# Altium schematic symbol library S100 SCHLIB.SchLib: 36 symbols
Pins are listed as number, name and electrical type; pins without a type are passive.

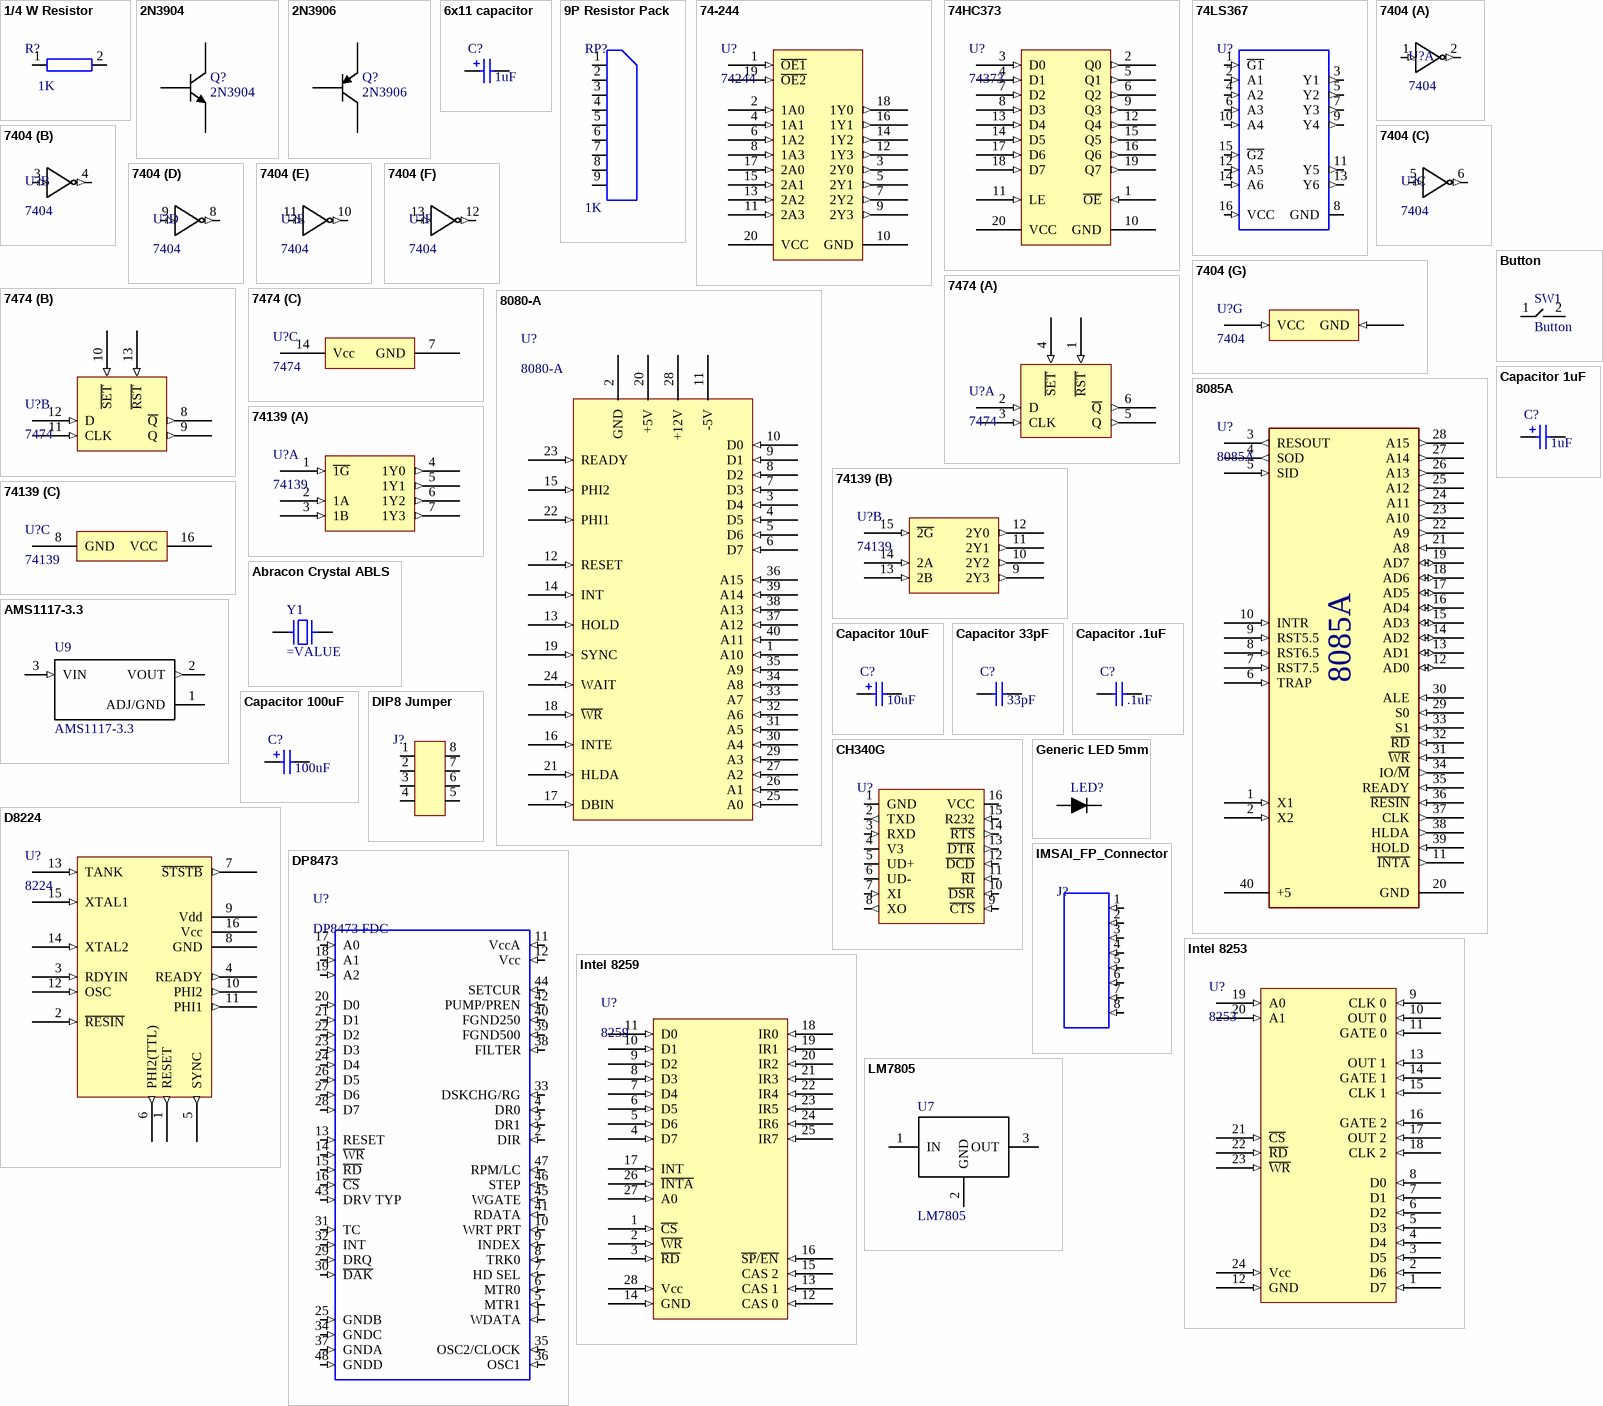
[diagram p0: symbols 1/4 W Resistor to LM7805]

## 1/4 W Resistor
designator R?  value 1K
1/4W Resistor
footprint 1/4W Axial Resistor
pins: 1, 2

## 2N3904
designator Q?
NPN General Purpose Amplifier; Published: 8-Jun-2000; LatestRevisionDate: 15-Jan-2003; LatestRevisionNote: PCB Footprint 'BCY-W3/D4.7' replaced; DatasheetVersion: 1997; PackageVersion: Sep-1998; PackageReference: TO-92A; Publisher: Altium Limited; PackageDescription: TO, Flat Index; 3 In-Line, Axial Leads; Body Dia. 4.5mm; Leads 0.51 x 0.48 mm (max); ComponentLink1Description: Manufacturer Link; ComponentLink1URL: http://www.fairchildsemi.com/; ComponentLink2Description: Datasheet; ComponentLink2URL: http://www.fairchildsemi.com/ds/2N%2F2N3904.pdf
footprint TO-92A (TO, Flat Index; 3 In-Line, Axial Leads; Body Dia. 4.5mm; Leads 0.51 x 0.48 mm (max))
simulation model 2N3904 (NPN)
signal-integrity model 2N3904
pins: 1 E, 2 B, 3 C

## 2N3906
designator Q?
2N3906 GP PNP; Published: 8-Jun-2000; LatestRevisionDate: 15-Jan-2003; LatestRevisionNote: PCB Footprint 'BCY-W3/D4.7' replaced; DatasheetVersion: 1997; PackageVersion: Sep-1998; PackageReference: TO-92A; Publisher: Altium Limited; PackageDescription: TO, Flat Index; 3 In-Line, Axial Leads; Body Dia. 4.5mm; Leads 0.51 x 0.48 mm (max); ComponentLink1Description: Manufacturer Link; ComponentLink1URL: http://www.fairchildsemi.com/; ComponentLink2Description: Datasheet; ComponentLink2URL: http://www.fairchildsemi.com/ds/2N%2F2N3906.pdf
simulation model 2N3906 (PNP)
signal-integrity model 2N3906
footprint TO-92A (TO, Flat Index; 3 In-Line, Axial Leads; Body Dia. 4.5mm; Leads 0.51 x 0.48 mm (max))
pins: 1 E, 2 B, 3 C

## 6x11 capacitor
designator C?  value 1uF
Published: 8-Jun-2000; LatestRevisionDate: 17-Jul-2002; LatestRevisionNote: Re-released for DXP Platform.; PackageReference: RB7.6-15; Publisher: Altium Limited; PackageDescription: Polarized Capacitor (Radial); 2 Leads
simulation model CAP (Capacitor)
signal-integrity model Cap Pol
footprint CAP THT 2.5-6.5-12
pins: 1, 2
1 alternate drawing of the same symbol

## 9P Resistor Pack
designator RP?  value 1K
footprint 9P-2.54 ResPack
pins: 1, 2, 3, 4, 5, 6, 7, 8, 9

## 74-244
designator U?, comment 74244
footprint DIP20
pins: 1 ~{OE1} (in), 2 1A0 (in), 3 2Y0 (out), 4 1A1 (in), 5 2Y1 (out), 6 1A2 (in), 7 2Y2 (out), 8 1A3 (in), 9 2Y3 (out), 10 GND (power), 11 2A3 (in), 12 1Y3 (out), 13 2A2 (in), 14 1Y2 (out), 15 2A1 (in), 16 1Y1 (out), 17 2A0 (in), 18 1Y0 (out), 19 ~{OE2} (in), 20 VCC (power)

## 74HC373
designator U?, comment 74373
footprint DIP20
pins: 1 ~{OE} (in), 2 Q0 (out), 3 D0 (in), 4 D1 (in), 5 Q1 (out), 6 Q2 (out), 7 D2 (in), 8 D3 (in), 9 Q3 (out), 10 GND (power), 11 LE (in), 12 Q4 (out), 13 D4 (in), 14 D5 (in), 15 Q5 (out), 16 Q6 (out), 17 D6 (in), 18 D7 (in), 19 Q7 (out), 20 VCC (power)

## 74LS367
designator U?
footprint DIP16
pins: 1 ~{G1} (in), 2 A1 (in), 3 Y1 (out), 4 A2 (in), 5 Y2 (out), 6 A3 (in), 7 Y3 (out), 8 GND (power), 9 Y4 (out), 10 A4 (in), 11 Y5 (out), 12 A5 (in), 13 Y6 (out), 14 A6 (in), 15 ~{G2} (in), 16 VCC (in)

## 7404
designator U?
Hex Inverter
footprint DIP14
part A pins: 1 1A (in), 2 1Y (out)
part B pins: 3 2A (in), 4 2Y (out)
part C pins: 5 3A (in), 6 3Y (out)
part D pins: 8 4Y (out), 9 4A (in)
part E pins: 10 5Y (out), 11 5A (in)
part F pins: 12 6Y (out), 13 6A (in)
part G pins: 7 GND (in), 14 VCC (in)

## 7474
designator U?
74xx74 D Latch
footprint DIP14
part A pins: 1 ~{RST} (in), 2 D (in), 3 CLK (in), 4 ~{SET} (in), 5 Q (out), 6 ~{Q} (out)
part B pins: 8 ~{Q} (out), 9 Q (out), 10 ~{SET} (in), 11 CLK (in), 12 D (in), 13 ~{RST} (in)
part C pins: 7 GND (power), 14 Vcc (power)

## 8080-A
designator U?
footprint DIP40-W
pins: 1 A10 (in), 2 GND (power), 3 D4 (in), 4 D5 (in), 5 D6 (in), 6 D7 (in), 7 D3 (in), 8 D2 (in), 9 D1 (in), 10 D0 (in), 11 -5V (power), 12 RESET (in), 13 HOLD (in), 14 INT (in), 15 PHI2 (in), 16 INTE (in), 17 DBIN (in), 18 ~{WR} (in), 19 SYNC (in), 20 +5V (power), 21 HLDA (in), 22 PHI1 (in), 23 READY (in), 24 WAIT (in), 25 A0 (in), 26 A1 (in), 27 A2 (in), 28 +12V (power), 29 A3 (in), 30 A4 (in), 31 A5 (in), 32 A6 (in), 33 A7 (in), 34 A8 (in), 35 A9 (in), 36 A15 (in), 37 A12 (in), 38 A13 (in), 39 A14 (in), 40 A11 (in)

## 8085A
designator U?
Intel 8085 A Microprocessor 3MHz
footprint DIP-40W
pins: 1 X1 (in), 2 X2 (in), 3 RESOUT (out), 4 SOD (out), 5 SID (in), 6 TRAP (in), 7 RST7.5 (in), 8 RST6.5 (in), 9 RST5.5 (in), 10 INTR (in), 11 ~{INTA} (out), 12 AD0 (io), 13 AD1 (io), 14 AD2 (io), 15 AD3 (io), 16 AD4 (io), 17 AD5 (io), 18 AD6 (io), 19 AD7 (io), 20 GND (power), 21 A8 (in), 22 A9 (out), 23 A10 (out), 24 A11 (out), 25 A12 (out), 26 A13 (out), 27 A14 (out), 28 A15 (out), 29 S0 (in), 30 ALE (in), 31 ~{WR} (in), 32 ~{RD} (in), 33 S1 (in), 34 IO/~{M} (out), 35 READY (in), 36 ~{RESIN} (in), 37 CLK (out), 38 HLDA (out), 39 HOLD (in), 40 +5 (power)

## 74139
designator U?
74 139 2 to 4 Decoder
footprint DIP16
part A pins: 1 ~{1G} (in), 2 1A (in), 3 1B (in), 4 1Y0 (out), 5 1Y1 (out), 6 1Y2 (out), 7 1Y3 (out)
part B pins: 9 2Y3 (out), 10 2Y2 (out), 11 2Y1 (out), 12 2Y0 (out), 13 2B (in), 14 2A (in), 15 ~{2G} (in)
part C pins: 8 GND (power), 16 VCC (power)

## Abracon Crystal ABLS
designator Y1
SMT Crystal
footprint ABRACON ABLS (Crystal, 2-Leads, Body 4.70x11.40mm, Pitch 8.80mm, IPC Medium Density)
pins: 1, 2

## AMS1117-3.3
designator U9
1-Amp 3.3-Volt Low Drop Out Voltage Regulatator; MF: Advanced Monolithic Systems; SnapEDA_Link: https://www.snapeda.com/parts/AMS1117-3.3/Advanced%20Monolithic%20Systems/view-part/?ref=snap; Price: None; MP: AMS1117-3.3; Availability: Unavailable; Package: None; Value: *
footprint AMS1117-3.3-SOT23
footprint TO220
pins: 1 ADJ/GND (power), 2 VOUT (out), 3 VIN (in)

## Button
designator SW1
LCSC Push button SMD
footprint SMD_PUSHBUTTON_LCSC
pins: 1, 2

## Capacitor 1uF
designator C?, comment 1uF
Published: 8-Jun-2000; LatestRevisionDate: 17-Jul-2002; LatestRevisionNote: Re-released for DXP Platform.; PackageReference: RB7.6-15; Publisher: Altium Limited; PackageDescription: Polarized Capacitor (Radial); 2 Leads; Value: 1uF
simulation model CAP (Capacitor)
signal-integrity model Cap Pol
footprint Cap THT 5x11.5-2.5 (Capacitor 5mm Radius x 2.5mm lead spacing 11.5mm Height)
pins: 1, 2
1 alternate drawing of the same symbol

## Capacitor 10uF
designator C?  value 10uF
Published: 8-Jun-2000; LatestRevisionDate: 17-Jul-2002; LatestRevisionNote: Re-released for DXP Platform.; PackageReference: RB7.6-15; Publisher: Altium Limited; PackageDescription: Polarized Capacitor (Radial); 2 Leads
simulation model CAP (Capacitor)
signal-integrity model Cap Pol
footprint Cap THT 5x11.5-2.5 (Capacitor 5mm Radius x 2.5mm lead spacing 11.5mm Height)
pins: 1, 2
1 alternate drawing of the same symbol

## Capacitor 33pF
designator C?  value 33pF
Published: 8-Jun-2000; LatestRevisionDate: 17-Jul-2002; LatestRevisionNote: Re-released for DXP Platform.; PackageReference: RB7.6-15; Publisher: Altium Limited; PackageDescription: Polarized Capacitor (Radial); 2 Leads
simulation model CAP (Capacitor)
signal-integrity model Cap Pol
footprint Cap THT 2.5-2-4 Ceramic
pins: 1, 2
1 alternate drawing of the same symbol

## Capacitor 100uF
designator C?  value 100uF
Published: 8-Jun-2000; LatestRevisionDate: 17-Jul-2002; LatestRevisionNote: Re-released for DXP Platform.; PackageReference: RB7.6-15; Publisher: Altium Limited; PackageDescription: Polarized Capacitor (Radial); 2 Leads
simulation model CAP (Capacitor)
signal-integrity model Cap Pol
footprint CAP THT 2.5-6.5-12
pins: 1, 2
1 alternate drawing of the same symbol

## Capacitor .1uF
designator C?  value .1uF
Published: 8-Jun-2000; LatestRevisionDate: 17-Jul-2002; LatestRevisionNote: Re-released for DXP Platform.; PackageReference: RB7.6-15; Publisher: Altium Limited; PackageDescription: Polarized Capacitor (Radial); 2 Leads
simulation model CAP (Capacitor)
signal-integrity model Cap Pol
footprint CAP THT 2.5x5x5
pins: 1, 2
1 alternate drawing of the same symbol

## CH340G
designator U?
footprint SOIC-175-16 (SOIC, 16-Leads, Body 9.90x3.90mm, Pitch 1.27mm, IPC Low Density)
pins: 1 GND (power), 2 TXD (out), 3 RXD (in), 4 V3 (power), 5 UD+ (io), 6 UD- (io), 7 XI (in), 8 XO (out), 9 ~{CTS} (in), 10 ~{DSR} (in), 11 ~{RI} (in), 12 ~{DCD} (in), 13 ~{DTR} (out), 14 ~{RTS} (out), 15 R232 (in), 16 VCC (power)

## D8224
designator U?, comment 8224
8224 Clock Generator for 8080-A
footprint DIP16
pins: 1 RESET (out), 2 ~{RESIN} (in), 3 RDYIN (in), 4 READY (out), 5 SYNC (out), 6 PHI2(TTL) (out), 7 ~{STSTB} (out), 8 GND (power), 9 Vdd (power), 10 PHI2 (out), 11 PHI1 (out), 12 OSC (in), 13 TANK (in), 14 XTAL2 (in), 15 XTAL1 (in), 16 Vcc (power)

## DIP8 Jumper
designator J?
footprint DIP8
pins: 1, 2, 3, 4, 5, 6, 7, 8

## DP8473
designator U?, comment DP8473 FDC
Floppy Disk Controller PLUS-2
pins: 1 WDATA (in), 2 DIR (in), 3 DR1 (in), 4 DR0 (in), 5 MTR1 (in), 6 MTR0 (in), 7 HD SEL (in), 8 TRK0 (in), 9 INDEX (in), 10 WRT PRT (in), 11 VccA (in), 12 Vcc (in), 13 RESET (in), 14 ~{WR} (in), 15 ~{RD} (in), 16 ~{CS} (in), 17 A0 (in), 18 A1 (in), 19 A2 (in), 20 D0 (in), 21 D1 (in), 22 D2 (in), 23 D3 (in), 24 D4 (in), 25 GNDB (in), 26 D5 (in), 27 D6 (in), 28 D7 (in), 29 DRQ (in), 30 ~{DAK} (in), 31 TC (in), 32 INT (in), 33 DSKCHG/RG (in), 34 GNDC (in), 35 OSC2/CLOCK (in), 36 OSC1 (in), 37 GNDA (in), 38 FILTER (in), 39 FGND500 (in), 40 FGND250 (in), 41 RDATA (in), 42 PUMP/PREN (in), 43 DRV TYP (in), 44 SETCUR (in) "ChargePump Coniguration Resistor", 45 WGATE (in), 46 STEP (in), 47 RPM/LC (in) "Motor RPM or Reduced Current Write Mode", 48 GNDD (in)

## Generic LED 5mm
designator LED?
footprint LED 5mm THT
pins: 1 A, 2 K

## IMSAI_FP_Connector
designator J?
footprint DIP16; pin to pad 1>1+16 2>2+15 3>3+14 4>4+14 5>5+12 6>6+11 7>7+10 8>8+9
pins: 1 (in), 2 (in), 3 (in), 4 (in), 5 (in), 6 (in), 7 (in), 8 (in)

## Intel 8253
designator U?, comment 8253
Intel 8253 MCS-85 Programmable Interval Timer
pins: 1 D7 (in), 2 D6 (in), 3 D5 (in), 4 D4 (in), 5 D3 (in), 6 D2 (in), 7 D1 (in), 8 D0 (in), 9 CLK 0 (in), 10 OUT 0 (in), 11 GATE 0 (in), 12 GND (in), 13 OUT 1 (in), 14 GATE 1 (in), 15 CLK 1 (in), 16 GATE 2 (in), 17 OUT 2 (in), 18 CLK 2 (in), 19 A0 (in), 20 A1 (in), 21 ~{CS} (in), 22 ~{RD} (in), 23 ~{WR} (in), 24 Vcc (in)

## Intel 8259
designator U?, comment 8259
Intel 8259 MCS80/85 Priority Interrupt Controller
pins: 1 ~{CS} (in), 2 ~{WR} (in), 3 ~{RD} (in), 4 D7 (in), 5 D6 (in), 6 D5 (in), 7 D4 (in), 8 D3 (in), 9 D2 (in), 10 D1 (in), 11 D0 (in), 12 CAS 0 (in), 13 CAS 1 (in), 14 GND (in), 15 CAS 2 (in), 16 ~{SP}/~{EN} (in), 17 INT (in), 18 IR0 (in), 19 IR1 (in), 20 IR2 (in), 21 IR3 (in), 22 IR4 (in), 23 IR5 (in), 24 IR6 (in), 25 IR7 (in), 26 ~{INTA} (in), 27 A0 (in), 28 Vcc (in)

## LM7805
designator U7
LM7805 Linear Voltage Regulator
footprint TO220
pins: 1 IN, 2 GND, 3 OUT

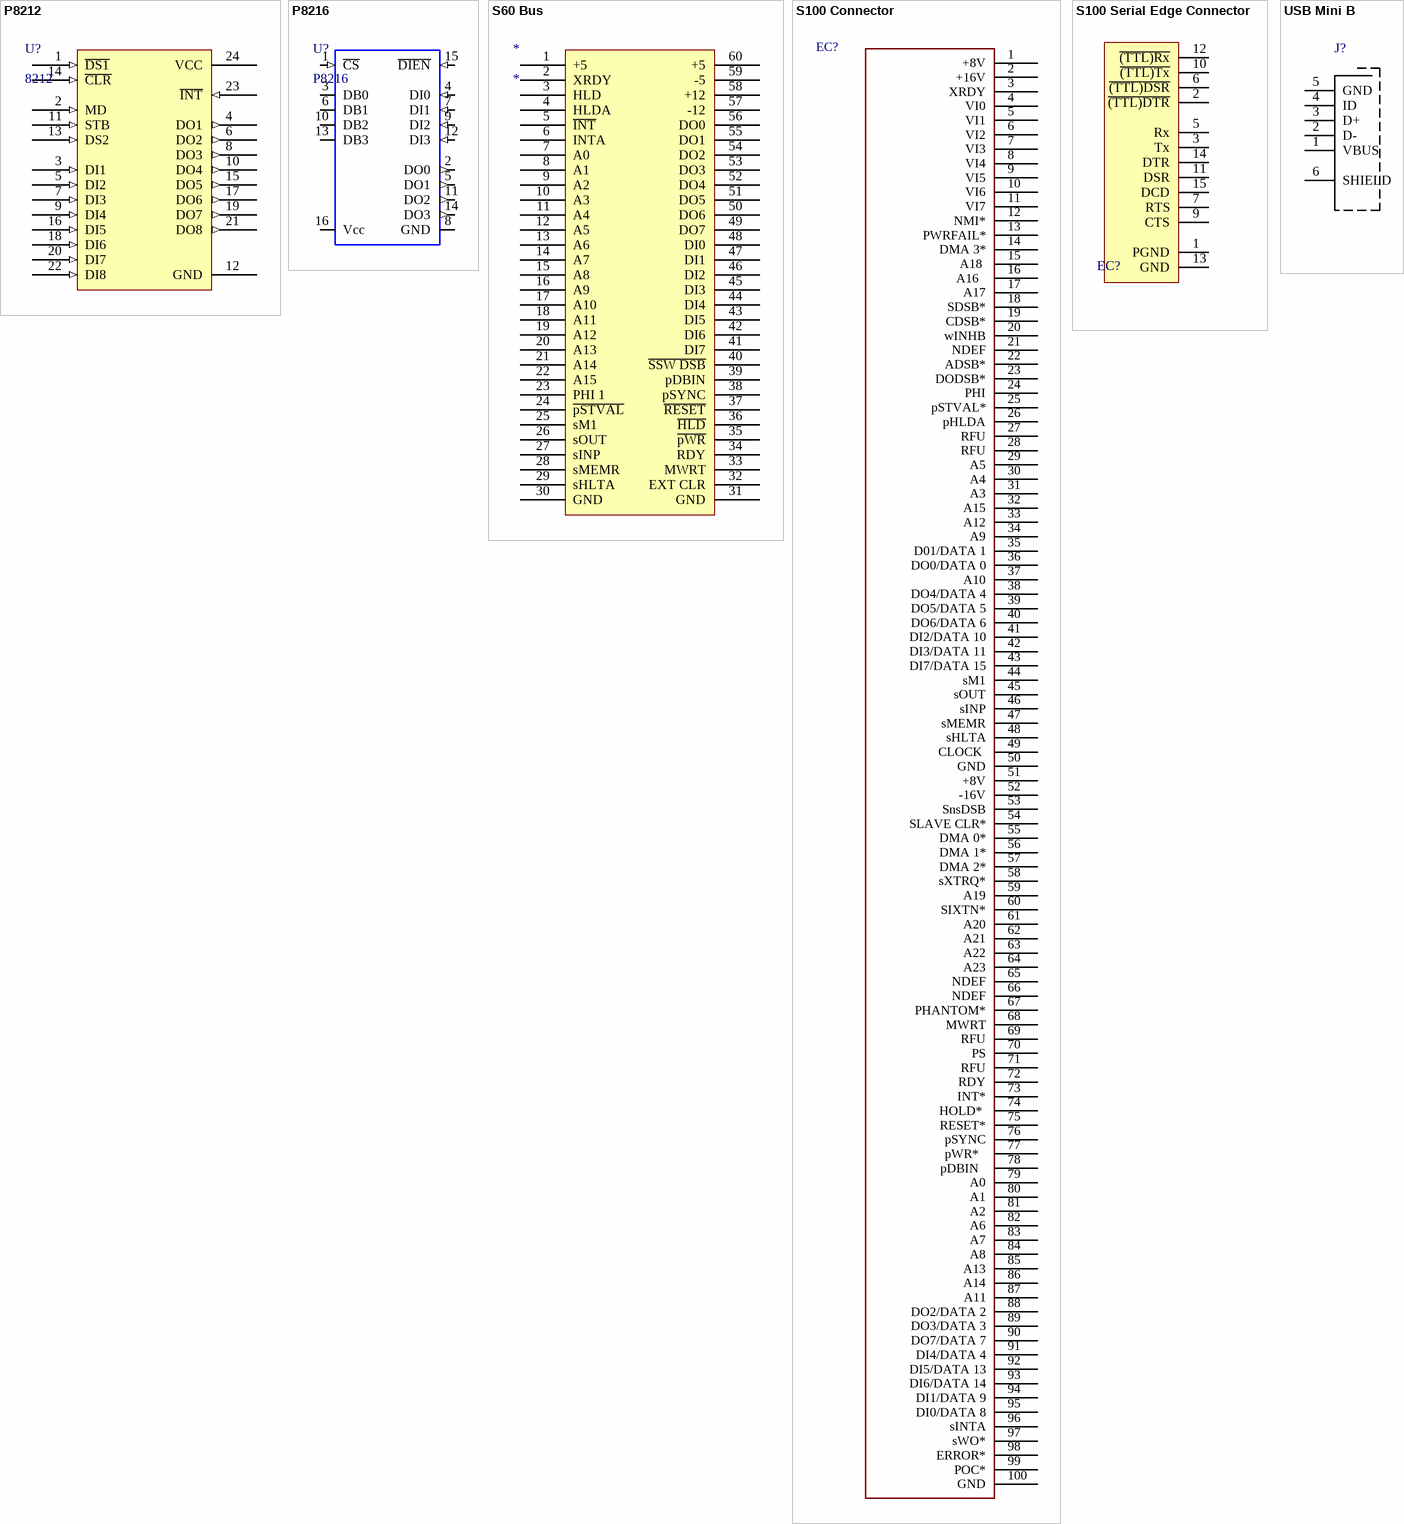
[diagram p1: symbols P8212 to USB Mini B]

## P8212
designator U?, comment 8212
Intel P8212 Output Port
footprint DIP24-W
pins: 1 ~{DS1} (in), 2 MD (in), 3 DI1 (in), 4 DO1 (out), 5 DI2 (in), 6 DO2 (out), 7 DI3 (in), 8 DO3 (out), 9 DI4 (in), 10 DO4 (out), 11 STB (in), 12 GND (power), 13 DS2 (in), 14 ~{CLR} (in), 15 DO5 (out), 16 DI5 (in), 17 DO6 (out), 18 DI6 (in), 19 DO7 (out), 20 DI7 (in), 21 DO8 (out), 22 DI8 (in), 23 ~{INT} (in), 24 VCC (power)

## P8216
designator U?
Intel P8216 4-bit Parallel Bidirectional Bus Driver
footprint DIP16
pins: 1 ~{CS} (in), 2 DO0 (out), 3 DB0 (io), 4 DI0 (in), 5 DO1 (out), 6 DB1 (io), 7 DI1 (in), 8 GND (power), 9 DI2 (in), 10 DB2 (io), 11 DO2 (out), 12 DI3 (in), 13 DB3 (io), 14 DO3 (out), 15 ~{DIEN} (in), 16 Vcc (power)

## S60 Bus
designator *
footprint S60 Female
pins: 1 +5, 2 XRDY, 3 HLD, 4 HLDA, 5 ~{INT}, 6 INTA, 7 A0, 8 A1, 9 A2, 10 A3, 11 A4, 12 A5, 13 A6, 14 A7, 15 A8, 16 A9, 17 A10, 18 A11, 19 A12, 20 A13, 21 A14, 22 A15, 23 PHI 1, 24 ~{pSTVAL}, 25 sM1, 26 sOUT, 27 sINP, 28 sMEMR, 29 sHLTA, 30 GND, 31 GND, 32 EXT CLR, 33 MWRT, 34 RDY, 35 ~{pWR}, 36 ~{HLD}, 37 ~{RESET}, 38 pSYNC, 39 pDBIN, 40 ~{SSW DSB}, 41 DI7, 42 DI6, 43 DI5, 44 DI4, 45 DI3, 46 DI2, 47 DI1, 48 DI0, 49 DO7, 50 DO6, 51 DO5, 52 DO4, 53 DO3, 54 DO2, 55 DO1, 56 DO0, 57 -12, 58 +12, 59 -5, 60 +5

## S100 Connector
designator EC?
footprint S100
pins: 1 +8V, 2 +16V, 3 XRDY, 4 VI0, 5 VI1, 6 VI2, 7 VI3, 8 VI4, 9 VI5, 10 VI6, 11 VI7, 12 NMI*, 13 PWRFAIL*, 14 DMA 3*, 15 A18 , 16 A16  , 17 A17, 18 SDSB*, 19 CDSB*, 20 wINHB, 21 NDEF, 22 ADSB*, 23 DODSB*, 24 PHI, 25 pSTVAL*, 26 pHLDA, 27 RFU, 28 RFU, 29 A5, 30 A4, 31 A3, 32 A15, 33 A12, 34 A9, 35 D01/DATA 1, 36 DO0/DATA 0, 37 A10, 38 DO4/DATA 4, 39 DO5/DATA 5, 40 DO6/DATA 6, 41 DI2/DATA 10, 42 DI3/DATA 11, 43 DI7/DATA 15, 44 sM1, 45 sOUT, 46 sINP, 47 sMEMR, 48 sHLTA, 49 CLOCK , 50 GND, 51 +8V, 52 -16V, 53 SnsDSB, 54 SLAVE CLR*, 55 DMA 0*, 56 DMA 1*, 57 DMA 2*, 58 sXTRQ*, 59 A19, 60 SIXTN*, 61 A20, 62 A21, 63 A22, 64 A23, 65 NDEF, 66 NDEF, 67 PHANTOM*, 68 MWRT, 69 RFU, 70 PS, 71 RFU, 72 RDY, 73 INT*, 74 HOLD* , 75 RESET*, 76 pSYNC, 77 pWR*  , 78 pDBIN  , 79 A0, 80 A1, 81 A2, 82 A6, 83 A7, 84 A8, 85 A13, 86 A14, 87 A11, 88 DO2/DATA 2, 89 DO3/DATA 3, 90 DO7/DATA 7, 91 DI4/DATA 4, 92 DI5/DATA 13, 93 DI6/DATA 14, 94 DI1/DATA 9, 95 DI0/DATA 8, 96 sINTA, 97 sWO*, 98 ERROR*, 99 POC*, 100 GND

## S100 Serial Edge Connector
designator EC?
footprint E26 Edge Connector (26 Pin Edge Connector)
pins: 1 PGND, 2 ~{(TTL)DTR}, 3 Tx, 5 Rx, 6 ~{(TTL)DSR}, 7 RTS, 9 CTS, 10 ~{(TTL)Tx}, 11 DSR, 12 ~{(TTL)Rx}, 13 GND (power), 14 DTR, 15 DCD

## USB Mini B
designator J?
MINI USB A - 5POS Horizontal through hole; MF: Wurth Electronics; MP: 651005136521; Package: None; Price: 1.78 USD; Availability: Good; SnapEDA_Link: https://www.snapeda.com/symbols-footprints/651005136521/Wurth%20Electronics%20Inc/view-part/?ref=snap; Value: *
footprint USB Mini B
pins: 1 VBUS, 2 D-, 3 D+, 4 ID, 5 GND, 6 SHIELD